# EAGLE library part LM5015 (library Poe)
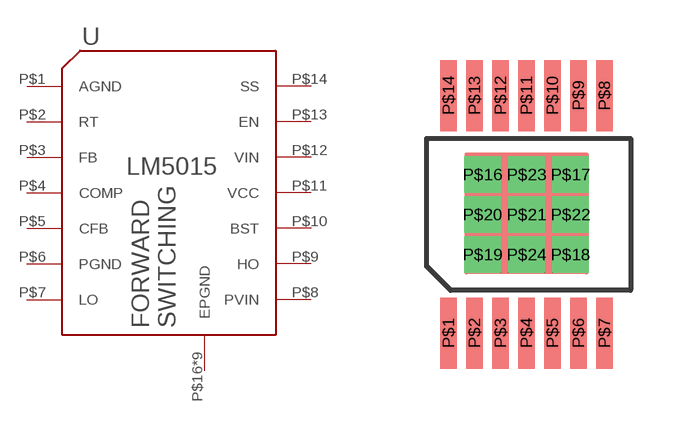
[diagram p1: symbol with the pads of TSSOP-14-LEAD-EXPOSED-PACKAGE; footprint TSSOP-14-LEAD-EXPOSED-PACKAGE]

Designator prefix U

## LM5015  [TSSOP-14-LEAD-EXPOSED-PACKAGE]
P$1  AGND
P$2  RT
P$3  FB
P$4  COMP
P$5  CFB
P$6  PGND
P$7  LO
P$8  PVIN
P$9  HO
P$10  BST
P$11  VCC
P$12  VIN
P$13  EN
P$14  SS
P$16  EPGND
P$17  EPGND
P$18  EPGND
P$19  EPGND
P$20  EPGND
P$21  EPGND
P$22  EPGND
P$23  EPGND
P$24  EPGND

## Footprint TSSOP-14-LEAD-EXPOSED-PACKAGE (pad centres in mm)
smd 0.42 x 1.78: P$1 -1.95,-2.97; P$2 -1.3,-2.97; P$3 -0.65,-2.97; P$4 0,-2.97; P$5 0.65,-2.97; P$6 1.3,-2.97; P$7 1.95,-2.97; P$8 1.95,2.97; P$9 1.3,2.97; P$10 0.65,2.97; P$11 0,2.97; P$12 -0.65,2.97; P$13 -1.3,2.97; P$14 -1.95,2.97
drill 0.406 square: P$16 -1.1,1; P$17 1.1,1; P$18 1.1,-1; P$19 -1.1,-1; P$20 -1.1,0; P$21 0,0; P$22 1.1,0; P$23 0,1; P$24 0,-1